# EAGLE library part FT231XQ (library Explore Labs EAGLE Library)
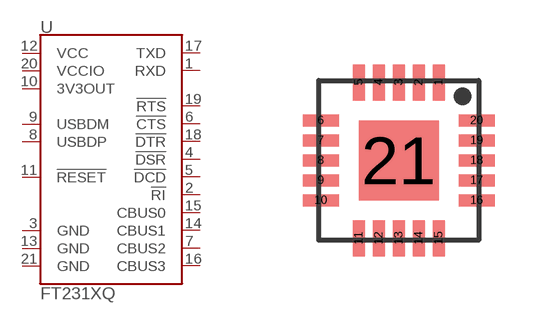
[diagram p23: symbol with the pads of QFN-20; footprint QFN-20]

Designator prefix -

## FT231XQ-QFN  [QFN-20]
1  RXD
2  !RI
3  GND
4  !DSR
5  !DCD
6  !CTS
7  CBUS2
8  USBDP
9  USBDM
10  3V3OUT
11  !RESET
12  VCC
13  GND
14  CBUS1
15  CBUS0
16  CBUS3
17  TXD
18  !DTR
19  !RTS
20  VCCIO
21  GND

## Footprint QFN-20 (pad centres in mm)
smd 0.3 x 0.9: 1 1,1.95; 2 0.5,1.95; 3 0,1.95; 4 -0.5,1.95; 5 -1,1.95; 11 -1,-1.95; 12 -0.5,-1.95; 13 0,-1.95; 14 0.5,-1.95; 15 1,-1.95
smd 0.9 x 0.3: 6 -1.95,1; 7 -1.95,0.5; 8 -1.95,0; 9 -1.95,-0.5; 10 -1.95,-1; 16 1.95,-1; 17 1.95,-0.5; 18 1.95,0; 19 1.95,0.5; 20 1.95,1
smd 2 x 2: 21 0,0